# Altium footprint library IPC-SM-782 Section 14.1.2 PBGA 1.27mm.PcbLib: 49 footprints (part 9 of 11)
Each footprint in its own frame and in the unit in brackets; x right, y up, seen from the top. Pads: shape width x height; smd on the part's side, far side on the other; paste and mask are expansions set on the pad; w line width, h text height; cw(c..) or ccw(c..) is an arc to the next point about the centre after c.
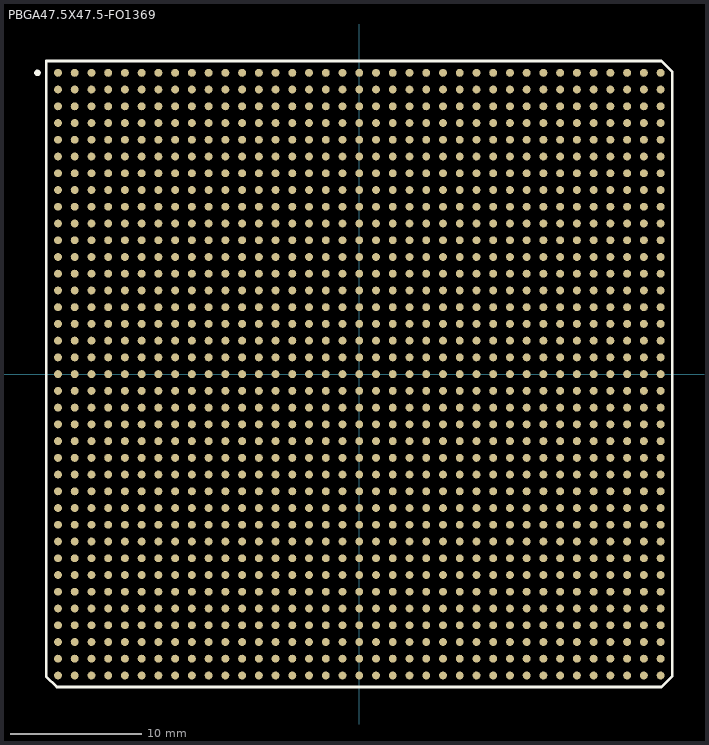
[diagram p8: the footprint, top view; thin cyan lines are the x and y axes]

## PBGA47.5X47.5-FO1369 [mm] "BGA; 1369 Balls; Body 47.5 x 47.5 mm; Pitch 1.27 mm"
height 3.5
pads (1369):
  round 0.6 smd: A1(-22.86,22.86) A2(-21.59,22.86) A3(-20.32,22.86) A4(-19.05,22.86) A5(-17.78,22.86) A6(-16.51,22.86) A7(-15.24,22.86) A8(-13.97,22.86) A9(-12.7,22.86) A10(-11.43,22.86) A11(-10.16,22.86) A12(-8.89,22.86) A13(-7.62,22.86) A14(-6.35,22.86) A15(-5.08,22.86) A16(-3.81,22.86) A17(-2.54,22.86) A18(-1.27,22.86) A19(0,22.86) A20(1.27,22.86) A21(2.54,22.86) A22(3.81,22.86) A23(5.08,22.86) A24(6.35,22.86) A25(7.62,22.86) A26(8.89,22.86) A27(10.16,22.86) A28(11.43,22.86) A29(12.7,22.86) A30(13.97,22.86) A31(15.24,22.86) A32(16.51,22.86) A33(17.78,22.86) A34(19.05,22.86) A35(20.32,22.86) A36(21.59,22.86) A37(22.86,22.86) AA1(-22.86,-2.54) AA2(-21.59,-2.54) AA3(-20.32,-2.54) AA4(-19.05,-2.54) AA5(-17.78,-2.54) AA6(-16.51,-2.54) AA7(-15.24,-2.54) AA8(-13.97,-2.54) AA9(-12.7,-2.54) AA10(-11.43,-2.54) AA11(-10.16,-2.54) AA12(-8.89,-2.54) AA13(-7.62,-2.54) AA14(-6.35,-2.54) AA15(-5.08,-2.54) AA16(-3.81,-2.54) AA17(-2.54,-2.54) AA18(-1.27,-2.54) AA19(0,-2.54) AA20(1.27,-2.54) AA21(2.54,-2.54) AA22(3.81,-2.54) AA23(5.08,-2.54) AA24(6.35,-2.54) AA25(7.62,-2.54) AA26(8.89,-2.54) AA27(10.16,-2.54) AA28(11.43,-2.54) AA29(12.7,-2.54) AA30(13.97,-2.54) AA31(15.24,-2.54) AA32(16.51,-2.54) AA33(17.78,-2.54) AA34(19.05,-2.54) AA35(20.32,-2.54) AA36(21.59,-2.54) AA37(22.86,-2.54) AB1(-22.86,-3.81) AB2(-21.59,-3.81) AB3(-20.32,-3.81) AB4(-19.05,-3.81) AB5(-17.78,-3.81) AB6(-16.51,-3.81) AB7(-15.24,-3.81) AB8(-13.97,-3.81) AB9(-12.7,-3.81) AB10(-11.43,-3.81) AB11(-10.16,-3.81) AB12(-8.89,-3.81) AB13(-7.62,-3.81) AB14(-6.35,-3.81) AB15(-5.08,-3.81) AB16(-3.81,-3.81) AB17(-2.54,-3.81) AB18(-1.27,-3.81) AB19(0,-3.81) AB20(1.27,-3.81) AB21(2.54,-3.81) AB22(3.81,-3.81) AB23(5.08,-3.81) AB24(6.35,-3.81) AB25(7.62,-3.81) AB26(8.89,-3.81) AB27(10.16,-3.81) AB28(11.43,-3.81) AB29(12.7,-3.81) AB30(13.97,-3.81) AB31(15.24,-3.81) AB32(16.51,-3.81) AB33(17.78,-3.81) AB34(19.05,-3.81) AB35(20.32,-3.81) AB36(21.59,-3.81) AB37(22.86,-3.81) AC1(-22.86,-5.08) AC2(-21.59,-5.08) AC3(-20.32,-5.08) AC4(-19.05,-5.08) AC5(-17.78,-5.08) AC6(-16.51,-5.08) AC7(-15.24,-5.08) AC8(-13.97,-5.08) AC9(-12.7,-5.08) AC10(-11.43,-5.08) AC11(-10.16,-5.08) AC12(-8.89,-5.08) AC13(-7.62,-5.08) AC14(-6.35,-5.08) AC15(-5.08,-5.08) AC16(-3.81,-5.08) AC17(-2.54,-5.08) AC18(-1.27,-5.08) AC19(0,-5.08) AC20(1.27,-5.08) AC21(2.54,-5.08) AC22(3.81,-5.08) AC23(5.08,-5.08) AC24(6.35,-5.08) AC25(7.62,-5.08) AC26(8.89,-5.08) AC27(10.16,-5.08) AC28(11.43,-5.08) AC29(12.7,-5.08) AC30(13.97,-5.08) AC31(15.24,-5.08) AC32(16.51,-5.08) AC33(17.78,-5.08) AC34(19.05,-5.08) AC35(20.32,-5.08) AC36(21.59,-5.08) AC37(22.86,-5.08) AD1(-22.86,-6.35) AD2(-21.59,-6.35) AD3(-20.32,-6.35) AD4(-19.05,-6.35) AD5(-17.78,-6.35) AD6(-16.51,-6.35) AD7(-15.24,-6.35) AD8(-13.97,-6.35) AD9(-12.7,-6.35) AD10(-11.43,-6.35) AD11(-10.16,-6.35) AD12(-8.89,-6.35) AD13(-7.62,-6.35) AD14(-6.35,-6.35) AD15(-5.08,-6.35) AD16(-3.81,-6.35) AD17(-2.54,-6.35) AD18(-1.27,-6.35) AD19(0,-6.35) AD20(1.27,-6.35) AD21(2.54,-6.35) AD22(3.81,-6.35) AD23(5.08,-6.35) AD24(6.35,-6.35) AD25(7.62,-6.35) AD26(8.89,-6.35) AD27(10.16,-6.35) AD28(11.43,-6.35) AD29(12.7,-6.35) AD30(13.97,-6.35) AD31(15.24,-6.35) AD32(16.51,-6.35) AD33(17.78,-6.35) AD34(19.05,-6.35) AD35(20.32,-6.35) AD36(21.59,-6.35) AD37(22.86,-6.35) AE1(-22.86,-7.62) AE2(-21.59,-7.62) AE3(-20.32,-7.62) AE4(-19.05,-7.62) AE5(-17.78,-7.62) AE6(-16.51,-7.62) AE7(-15.24,-7.62) AE8(-13.97,-7.62) AE9(-12.7,-7.62) AE10(-11.43,-7.62) AE11(-10.16,-7.62) AE12(-8.89,-7.62) AE13(-7.62,-7.62) AE14(-6.35,-7.62) AE15(-5.08,-7.62) AE16(-3.81,-7.62) AE17(-2.54,-7.62) AE18(-1.27,-7.62) AE19(0,-7.62) AE20(1.27,-7.62) AE21(2.54,-7.62) AE22(3.81,-7.62) AE23(5.08,-7.62) AE24(6.35,-7.62) AE25(7.62,-7.62) AE26(8.89,-7.62) AE27(10.16,-7.62) AE28(11.43,-7.62) AE29(12.7,-7.62) AE30(13.97,-7.62) AE31(15.24,-7.62) AE32(16.51,-7.62) AE33(17.78,-7.62) AE34(19.05,-7.62) AE35(20.32,-7.62) AE36(21.59,-7.62) AE37(22.86,-7.62) AF1(-22.86,-8.89) AF2(-21.59,-8.89) AF3(-20.32,-8.89) AF4(-19.05,-8.89) AF5(-17.78,-8.89) AF6(-16.51,-8.89) AF7(-15.24,-8.89) AF8(-13.97,-8.89) AF9(-12.7,-8.89) AF10(-11.43,-8.89) AF11(-10.16,-8.89) AF12(-8.89,-8.89) AF13(-7.62,-8.89) AF14(-6.35,-8.89) AF15(-5.08,-8.89) AF16(-3.81,-8.89) AF17(-2.54,-8.89) AF18(-1.27,-8.89) AF19(0,-8.89) AF20(1.27,-8.89) AF21(2.54,-8.89) AF22(3.81,-8.89) AF23(5.08,-8.89) AF24(6.35,-8.89) AF25(7.62,-8.89) AF26(8.89,-8.89) AF27(10.16,-8.89) AF28(11.43,-8.89) AF29(12.7,-8.89) AF30(13.97,-8.89) AF31(15.24,-8.89) AF32(16.51,-8.89) AF33(17.78,-8.89) AF34(19.05,-8.89) AF35(20.32,-8.89) AF36(21.59,-8.89) AF37(22.86,-8.89) AG1(-22.86,-10.16) AG2(-21.59,-10.16) AG3(-20.32,-10.16) AG4(-19.05,-10.16) AG5(-17.78,-10.16) AG6(-16.51,-10.16) AG7(-15.24,-10.16) AG8(-13.97,-10.16) AG9(-12.7,-10.16) AG10(-11.43,-10.16) AG11(-10.16,-10.16) AG12(-8.89,-10.16) AG13(-7.62,-10.16) AG14(-6.35,-10.16) AG15(-5.08,-10.16) AG16(-3.81,-10.16) AG17(-2.54,-10.16) AG18(-1.27,-10.16) AG19(0,-10.16) AG20(1.27,-10.16) AG21(2.54,-10.16) AG22(3.81,-10.16) AG23(5.08,-10.16) AG24(6.35,-10.16) AG25(7.62,-10.16) AG26(8.89,-10.16) AG27(10.16,-10.16) AG28(11.43,-10.16) AG29(12.7,-10.16) AG30(13.97,-10.16) AG31(15.24,-10.16) AG32(16.51,-10.16) AG33(17.78,-10.16) AG34(19.05,-10.16) AG35(20.32,-10.16) AG36(21.59,-10.16) AG37(22.86,-10.16) AH1(-22.86,-11.43) AH2(-21.59,-11.43) AH3(-20.32,-11.43) AH4(-19.05,-11.43) AH5(-17.78,-11.43) AH6(-16.51,-11.43) AH7(-15.24,-11.43) AH8(-13.97,-11.43) AH9(-12.7,-11.43) AH10(-11.43,-11.43) AH11(-10.16,-11.43) AH12(-8.89,-11.43) AH13(-7.62,-11.43) AH14(-6.35,-11.43) AH15(-5.08,-11.43) AH16(-3.81,-11.43) AH17(-2.54,-11.43) AH18(-1.27,-11.43) AH19(0,-11.43) AH20(1.27,-11.43) AH21(2.54,-11.43) AH22(3.81,-11.43) AH23(5.08,-11.43) AH24(6.35,-11.43) AH25(7.62,-11.43) AH26(8.89,-11.43) AH27(10.16,-11.43) AH28(11.43,-11.43) AH29(12.7,-11.43) AH30(13.97,-11.43) AH31(15.24,-11.43) AH32(16.51,-11.43) AH33(17.78,-11.43) AH34(19.05,-11.43) AH35(20.32,-11.43) AH36(21.59,-11.43) AH37(22.86,-11.43) AJ1(-22.86,-12.7) AJ2(-21.59,-12.7) AJ3(-20.32,-12.7) AJ4(-19.05,-12.7) AJ5(-17.78,-12.7) AJ6(-16.51,-12.7) AJ7(-15.24,-12.7) AJ8(-13.97,-12.7) AJ9(-12.7,-12.7) AJ10(-11.43,-12.7) AJ11(-10.16,-12.7) AJ12(-8.89,-12.7) AJ13(-7.62,-12.7) AJ14(-6.35,-12.7) AJ15(-5.08,-12.7) AJ16(-3.81,-12.7) AJ17(-2.54,-12.7) AJ18(-1.27,-12.7) AJ19(0,-12.7) AJ20(1.27,-12.7) AJ21(2.54,-12.7) AJ22(3.81,-12.7) AJ23(5.08,-12.7) AJ24(6.35,-12.7) AJ25(7.62,-12.7) AJ26(8.89,-12.7) AJ27(10.16,-12.7) AJ28(11.43,-12.7) AJ29(12.7,-12.7) AJ30(13.97,-12.7) AJ31(15.24,-12.7) AJ32(16.51,-12.7) AJ33(17.78,-12.7) AJ34(19.05,-12.7) AJ35(20.32,-12.7) AJ36(21.59,-12.7) AJ37(22.86,-12.7) AK1(-22.86,-13.97) AK2(-21.59,-13.97) AK3(-20.32,-13.97) AK4(-19.05,-13.97) AK5(-17.78,-13.97) AK6(-16.51,-13.97) AK7(-15.24,-13.97) AK8(-13.97,-13.97) AK9(-12.7,-13.97) AK10(-11.43,-13.97) AK11(-10.16,-13.97) AK12(-8.89,-13.97) AK13(-7.62,-13.97) AK14(-6.35,-13.97) AK15(-5.08,-13.97) AK16(-3.81,-13.97) AK17(-2.54,-13.97) AK18(-1.27,-13.97) AK19(0,-13.97) AK20(1.27,-13.97) AK21(2.54,-13.97) AK22(3.81,-13.97) AK23(5.08,-13.97) AK24(6.35,-13.97) AK25(7.62,-13.97) AK26(8.89,-13.97) AK27(10.16,-13.97) AK28(11.43,-13.97) AK29(12.7,-13.97) AK30(13.97,-13.97) AK31(15.24,-13.97) AK32(16.51,-13.97) AK33(17.78,-13.97) AK34(19.05,-13.97) AK35(20.32,-13.97) AK36(21.59,-13.97) AK37(22.86,-13.97) AL1(-22.86,-15.24) AL2(-21.59,-15.24) AL3(-20.32,-15.24) AL4(-19.05,-15.24) AL5(-17.78,-15.24) AL6(-16.51,-15.24) AL7(-15.24,-15.24) AL8(-13.97,-15.24) AL9(-12.7,-15.24) AL10(-11.43,-15.24) AL11(-10.16,-15.24) AL12(-8.89,-15.24) AL13(-7.62,-15.24) AL14(-6.35,-15.24) AL15(-5.08,-15.24) AL16(-3.81,-15.24) AL17(-2.54,-15.24) AL18(-1.27,-15.24) AL19(0,-15.24) AL20(1.27,-15.24) AL21(2.54,-15.24) AL22(3.81,-15.24) AL23(5.08,-15.24) AL24(6.35,-15.24) AL25(7.62,-15.24) AL26(8.89,-15.24) AL27(10.16,-15.24) AL28(11.43,-15.24) AL29(12.7,-15.24) AL30(13.97,-15.24) AL31(15.24,-15.24) AL32(16.51,-15.24) AL33(17.78,-15.24) AL34(19.05,-15.24) AL35(20.32,-15.24) AL36(21.59,-15.24) AL37(22.86,-15.24) AM1(-22.86,-16.51) AM2(-21.59,-16.51) AM3(-20.32,-16.51) AM4(-19.05,-16.51) AM5(-17.78,-16.51) AM6(-16.51,-16.51) AM7(-15.24,-16.51) AM8(-13.97,-16.51) AM9(-12.7,-16.51) AM10(-11.43,-16.51) AM11(-10.16,-16.51) AM12(-8.89,-16.51) AM13(-7.62,-16.51) AM14(-6.35,-16.51) AM15(-5.08,-16.51) AM16(-3.81,-16.51) AM17(-2.54,-16.51) AM18(-1.27,-16.51) AM19(0,-16.51) AM20(1.27,-16.51) AM21(2.54,-16.51) AM22(3.81,-16.51) AM23(5.08,-16.51) AM24(6.35,-16.51) AM25(7.62,-16.51) AM26(8.89,-16.51) AM27(10.16,-16.51) AM28(11.43,-16.51) AM29(12.7,-16.51) AM30(13.97,-16.51) AM31(15.24,-16.51) AM32(16.51,-16.51) AM33(17.78,-16.51) AM34(19.05,-16.51) AM35(20.32,-16.51) AM36(21.59,-16.51) AM37(22.86,-16.51) AN1(-22.86,-17.78) AN2(-21.59,-17.78) AN3(-20.32,-17.78) AN4(-19.05,-17.78) AN5(-17.78,-17.78) AN6(-16.51,-17.78) AN7(-15.24,-17.78) AN8(-13.97,-17.78) AN9(-12.7,-17.78) AN10(-11.43,-17.78) AN11(-10.16,-17.78) AN12(-8.89,-17.78) AN13(-7.62,-17.78) AN14(-6.35,-17.78) AN15(-5.08,-17.78) AN16(-3.81,-17.78) AN17(-2.54,-17.78) AN18(-1.27,-17.78) AN19(0,-17.78) AN20(1.27,-17.78) AN21(2.54,-17.78) AN22(3.81,-17.78) AN23(5.08,-17.78) AN24(6.35,-17.78) AN25(7.62,-17.78) AN26(8.89,-17.78) AN27(10.16,-17.78) AN28(11.43,-17.78) AN29(12.7,-17.78) AN30(13.97,-17.78) AN31(15.24,-17.78) AN32(16.51,-17.78) AN33(17.78,-17.78) AN34(19.05,-17.78) AN35(20.32,-17.78) AN36(21.59,-17.78) AN37(22.86,-17.78) AP1(-22.86,-19.05) AP2(-21.59,-19.05) AP3(-20.32,-19.05) AP4(-19.05,-19.05) AP5(-17.78,-19.05) AP6(-16.51,-19.05) AP7(-15.24,-19.05) AP8(-13.97,-19.05) AP9(-12.7,-19.05) AP10(-11.43,-19.05) AP11(-10.16,-19.05) AP12(-8.89,-19.05) AP13(-7.62,-19.05) AP14(-6.35,-19.05) AP15(-5.08,-19.05) AP16(-3.81,-19.05) AP17(-2.54,-19.05) AP18(-1.27,-19.05) AP19(0,-19.05) AP20(1.27,-19.05) AP21(2.54,-19.05) AP22(3.81,-19.05) AP23(5.08,-19.05) AP24(6.35,-19.05) AP25(7.62,-19.05) AP26(8.89,-19.05) AP27(10.16,-19.05) AP28(11.43,-19.05) AP29(12.7,-19.05) AP30(13.97,-19.05) AP31(15.24,-19.05) AP32(16.51,-19.05) AP33(17.78,-19.05) AP34(19.05,-19.05) AP35(20.32,-19.05) AP36(21.59,-19.05) AP37(22.86,-19.05) AR1(-22.86,-20.32) AR2(-21.59,-20.32) AR3(-20.32,-20.32) AR4(-19.05,-20.32) AR5(-17.78,-20.32) AR6(-16.51,-20.32) AR7(-15.24,-20.32) AR8(-13.97,-20.32) AR9(-12.7,-20.32) AR10(-11.43,-20.32) AR11(-10.16,-20.32) AR12(-8.89,-20.32) AR13(-7.62,-20.32) AR14(-6.35,-20.32) AR15(-5.08,-20.32) AR16(-3.81,-20.32) AR17(-2.54,-20.32) AR18(-1.27,-20.32) AR19(0,-20.32) AR20(1.27,-20.32) AR21(2.54,-20.32) AR22(3.81,-20.32) AR23(5.08,-20.32) AR24(6.35,-20.32) AR25(7.62,-20.32) AR26(8.89,-20.32) AR27(10.16,-20.32) AR28(11.43,-20.32) AR29(12.7,-20.32) AR30(13.97,-20.32) AR31(15.24,-20.32) AR32(16.51,-20.32) AR33(17.78,-20.32) AR34(19.05,-20.32) AR35(20.32,-20.32) AR36(21.59,-20.32) AR37(22.86,-20.32) AT1(-22.86,-21.59) AT2(-21.59,-21.59) AT3(-20.32,-21.59) AT4(-19.05,-21.59) AT5(-17.78,-21.59) AT6(-16.51,-21.59) AT7(-15.24,-21.59) AT8(-13.97,-21.59) AT9(-12.7,-21.59) AT10(-11.43,-21.59) AT11(-10.16,-21.59) AT12(-8.89,-21.59) AT13(-7.62,-21.59) AT14(-6.35,-21.59) AT15(-5.08,-21.59) AT16(-3.81,-21.59) AT17(-2.54,-21.59) AT18(-1.27,-21.59) AT19(0,-21.59) AT20(1.27,-21.59) AT21(2.54,-21.59) AT22(3.81,-21.59) AT23(5.08,-21.59) AT24(6.35,-21.59) AT25(7.62,-21.59) AT26(8.89,-21.59) AT27(10.16,-21.59) AT28(11.43,-21.59) AT29(12.7,-21.59) AT30(13.97,-21.59) AT31(15.24,-21.59) AT32(16.51,-21.59) AT33(17.78,-21.59) AT34(19.05,-21.59) AT35(20.32,-21.59) AT36(21.59,-21.59) AT37(22.86,-21.59) AU1(-22.86,-22.86) AU2(-21.59,-22.86) AU3(-20.32,-22.86) AU4(-19.05,-22.86) AU5(-17.78,-22.86) AU6(-16.51,-22.86) AU7(-15.24,-22.86) AU8(-13.97,-22.86) AU9(-12.7,-22.86) AU10(-11.43,-22.86) AU11(-10.16,-22.86) AU12(-8.89,-22.86) AU13(-7.62,-22.86) AU14(-6.35,-22.86) AU15(-5.08,-22.86) AU16(-3.81,-22.86) AU17(-2.54,-22.86) AU18(-1.27,-22.86) AU19(0,-22.86) AU20(1.27,-22.86) AU21(2.54,-22.86) AU22(3.81,-22.86) AU23(5.08,-22.86) AU24(6.35,-22.86) AU25(7.62,-22.86) AU26(8.89,-22.86) AU27(10.16,-22.86) AU28(11.43,-22.86) AU29(12.7,-22.86) AU30(13.97,-22.86) AU31(15.24,-22.86) AU32(16.51,-22.86) AU33(17.78,-22.86) AU34(19.05,-22.86) AU35(20.32,-22.86) AU36(21.59,-22.86) AU37(22.86,-22.86) B1(-22.86,21.59) B2(-21.59,21.59) B3(-20.32,21.59) B4(-19.05,21.59) B5(-17.78,21.59) B6(-16.51,21.59) B7(-15.24,21.59) B8(-13.97,21.59) B9(-12.7,21.59) B10(-11.43,21.59) B11(-10.16,21.59) B12(-8.89,21.59) B13(-7.62,21.59) B14(-6.35,21.59) B15(-5.08,21.59) B16(-3.81,21.59) B17(-2.54,21.59) B18(-1.27,21.59) B19(0,21.59) B20(1.27,21.59) B21(2.54,21.59) B22(3.81,21.59) B23(5.08,21.59) B24(6.35,21.59) B25(7.62,21.59) B26(8.89,21.59) B27(10.16,21.59) B28(11.43,21.59) B29(12.7,21.59) B30(13.97,21.59) B31(15.24,21.59) B32(16.51,21.59) B33(17.78,21.59) B34(19.05,21.59) B35(20.32,21.59) B36(21.59,21.59) B37(22.86,21.59) C1(-22.86,20.32) C2(-21.59,20.32) C3(-20.32,20.32) C4(-19.05,20.32) C5(-17.78,20.32) C6(-16.51,20.32) C7(-15.24,20.32) C8(-13.97,20.32) C9(-12.7,20.32) C10(-11.43,20.32) C11(-10.16,20.32) C12(-8.89,20.32) C13(-7.62,20.32) C14(-6.35,20.32) C15(-5.08,20.32) C16(-3.81,20.32) C17(-2.54,20.32) C18(-1.27,20.32) C19(0,20.32) C20(1.27,20.32) C21(2.54,20.32) C22(3.81,20.32) C23(5.08,20.32) C24(6.35,20.32) C25(7.62,20.32) C26(8.89,20.32) C27(10.16,20.32) C28(11.43,20.32) C29(12.7,20.32) C30(13.97,20.32) C31(15.24,20.32) C32(16.51,20.32) C33(17.78,20.32) C34(19.05,20.32) C35(20.32,20.32) C36(21.59,20.32) C37(22.86,20.32) D1(-22.86,19.05) D2(-21.59,19.05) D3(-20.32,19.05) D4(-19.05,19.05) D5(-17.78,19.05) D6(-16.51,19.05) D7(-15.24,19.05) D8(-13.97,19.05) D9(-12.7,19.05) D10(-11.43,19.05) D11(-10.16,19.05) D12(-8.89,19.05) D13(-7.62,19.05) D14(-6.35,19.05) D15(-5.08,19.05) D16(-3.81,19.05) D17(-2.54,19.05) D18(-1.27,19.05) D19(0,19.05) D20(1.27,19.05) D21(2.54,19.05) D22(3.81,19.05) D23(5.08,19.05) D24(6.35,19.05) D25(7.62,19.05) D26(8.89,19.05) D27(10.16,19.05) D28(11.43,19.05) D29(12.7,19.05) D30(13.97,19.05) D31(15.24,19.05) D32(16.51,19.05) D33(17.78,19.05) D34(19.05,19.05) D35(20.32,19.05) D36(21.59,19.05) D37(22.86,19.05) E1(-22.86,17.78) E2(-21.59,17.78) E3(-20.32,17.78) E4(-19.05,17.78) E5(-17.78,17.78) E6(-16.51,17.78) E7(-15.24,17.78) E8(-13.97,17.78) E9(-12.7,17.78) E10(-11.43,17.78) E11(-10.16,17.78) E12(-8.89,17.78) E13(-7.62,17.78) E14(-6.35,17.78) E15(-5.08,17.78) E16(-3.81,17.78) E17(-2.54,17.78) E18(-1.27,17.78) E19(0,17.78) E20(1.27,17.78) E21(2.54,17.78) E22(3.81,17.78) E23(5.08,17.78) E24(6.35,17.78) E25(7.62,17.78) E26(8.89,17.78) E27(10.16,17.78) E28(11.43,17.78) E29(12.7,17.78) E30(13.97,17.78) E31(15.24,17.78) E32(16.51,17.78) E33(17.78,17.78) E34(19.05,17.78) E35(20.32,17.78) E36(21.59,17.78) E37(22.86,17.78) F1(-22.86,16.51) F2(-21.59,16.51) F3(-20.32,16.51) F4(-19.05,16.51) F5(-17.78,16.51) F6(-16.51,16.51) F7(-15.24,16.51) F8(-13.97,16.51) F9(-12.7,16.51) F10(-11.43,16.51) F11(-10.16,16.51) F12(-8.89,16.51) F13(-7.62,16.51) F14(-6.35,16.51) F15(-5.08,16.51) F16(-3.81,16.51) F17(-2.54,16.51) F18(-1.27,16.51) F19(0,16.51) F20(1.27,16.51) F21(2.54,16.51) F22(3.81,16.51) F23(5.08,16.51) F24(6.35,16.51) F25(7.62,16.51) F26(8.89,16.51) F27(10.16,16.51) F28(11.43,16.51) F29(12.7,16.51) F30(13.97,16.51) F31(15.24,16.51) F32(16.51,16.51) F33(17.78,16.51) F34(19.05,16.51) F35(20.32,16.51) F36(21.59,16.51) F37(22.86,16.51) G1(-22.86,15.24) G2(-21.59,15.24) G3(-20.32,15.24) G4(-19.05,15.24) G5(-17.78,15.24) G6(-16.51,15.24) G7(-15.24,15.24) G8(-13.97,15.24) G9(-12.7,15.24) G10(-11.43,15.24) G11(-10.16,15.24) G12(-8.89,15.24) G13(-7.62,15.24) G14(-6.35,15.24) G15(-5.08,15.24) G16(-3.81,15.24) G17(-2.54,15.24) G18(-1.27,15.24) G19(0,15.24) G20(1.27,15.24) G21(2.54,15.24) G22(3.81,15.24) G23(5.08,15.24) G24(6.35,15.24) G25(7.62,15.24) G26(8.89,15.24) G27(10.16,15.24) G28(11.43,15.24) G29(12.7,15.24) G30(13.97,15.24) G31(15.24,15.24) G32(16.51,15.24) G33(17.78,15.24) G34(19.05,15.24) G35(20.32,15.24) G36(21.59,15.24) G37(22.86,15.24) H1(-22.86,13.97) H2(-21.59,13.97) H3(-20.32,13.97) H4(-19.05,13.97) H5(-17.78,13.97) H6(-16.51,13.97) H7(-15.24,13.97) H8(-13.97,13.97) H9(-12.7,13.97) H10(-11.43,13.97) H11(-10.16,13.97) H12(-8.89,13.97) H13(-7.62,13.97) H14(-6.35,13.97) H15(-5.08,13.97) H16(-3.81,13.97) H17(-2.54,13.97) H18(-1.27,13.97) H19(0,13.97) H20(1.27,13.97) H21(2.54,13.97) H22(3.81,13.97) H23(5.08,13.97) H24(6.35,13.97) H25(7.62,13.97) H26(8.89,13.97) H27(10.16,13.97) H28(11.43,13.97) H29(12.7,13.97) H30(13.97,13.97) H31(15.24,13.97) H32(16.51,13.97) H33(17.78,13.97) H34(19.05,13.97) H35(20.32,13.97) H36(21.59,13.97) H37(22.86,13.97) J1(-22.86,12.7) J2(-21.59,12.7) J3(-20.32,12.7) J4(-19.05,12.7) J5(-17.78,12.7) J6(-16.51,12.7) J7(-15.24,12.7) J8(-13.97,12.7) J9(-12.7,12.7) J10(-11.43,12.7) J11(-10.16,12.7) J12(-8.89,12.7) J13(-7.62,12.7) J14(-6.35,12.7) J15(-5.08,12.7) J16(-3.81,12.7) J17(-2.54,12.7) J18(-1.27,12.7) J19(0,12.7) J20(1.27,12.7) J21(2.54,12.7) J22(3.81,12.7) J23(5.08,12.7) J24(6.35,12.7) J25(7.62,12.7) J26(8.89,12.7) J27(10.16,12.7) J28(11.43,12.7) J29(12.7,12.7) J30(13.97,12.7) J31(15.24,12.7) J32(16.51,12.7) J33(17.78,12.7) J34(19.05,12.7) J35(20.32,12.7) J36(21.59,12.7) J37(22.86,12.7) K1(-22.86,11.43) K2(-21.59,11.43) K3(-20.32,11.43) K4(-19.05,11.43) K5(-17.78,11.43) K6(-16.51,11.43) K7(-15.24,11.43) K8(-13.97,11.43) K9(-12.7,11.43) K10(-11.43,11.43) K11(-10.16,11.43) K12(-8.89,11.43) K13(-7.62,11.43) K14(-6.35,11.43) K15(-5.08,11.43) K16(-3.81,11.43) K17(-2.54,11.43) K18(-1.27,11.43) K19(0,11.43) K20(1.27,11.43) K21(2.54,11.43) K22(3.81,11.43) K23(5.08,11.43) K24(6.35,11.43) K25(7.62,11.43) K26(8.89,11.43) K27(10.16,11.43) K28(11.43,11.43) K29(12.7,11.43) K30(13.97,11.43) K31(15.24,11.43) K32(16.51,11.43) K33(17.78,11.43) K34(19.05,11.43) K35(20.32,11.43) K36(21.59,11.43) K37(22.86,11.43) L1(-22.86,10.16) L2(-21.59,10.16) L3(-20.32,10.16) L4(-19.05,10.16) L5(-17.78,10.16) L6(-16.51,10.16) L7(-15.24,10.16) L8(-13.97,10.16) L9(-12.7,10.16) L10(-11.43,10.16) L11(-10.16,10.16) L12(-8.89,10.16) L13(-7.62,10.16) L14(-6.35,10.16) L15(-5.08,10.16) L16(-3.81,10.16) L17(-2.54,10.16) L18(-1.27,10.16) L19(0,10.16) L20(1.27,10.16) L21(2.54,10.16) L22(3.81,10.16) L23(5.08,10.16) L24(6.35,10.16) L25(7.62,10.16) L26(8.89,10.16) L27(10.16,10.16) L28(11.43,10.16) L29(12.7,10.16) L30(13.97,10.16) L31(15.24,10.16) L32(16.51,10.16) L33(17.78,10.16) L34(19.05,10.16) L35(20.32,10.16) L36(21.59,10.16) L37(22.86,10.16) M1(-22.86,8.89) M2(-21.59,8.89) M3(-20.32,8.89) M4(-19.05,8.89) M5(-17.78,8.89) M6(-16.51,8.89) M7(-15.24,8.89) M8(-13.97,8.89) M9(-12.7,8.89) M10(-11.43,8.89) M11(-10.16,8.89) M12(-8.89,8.89) M13(-7.62,8.89) M14(-6.35,8.89) M15(-5.08,8.89) M16(-3.81,8.89) M17(-2.54,8.89) M18(-1.27,8.89) M19(0,8.89) M20(1.27,8.89) M21(2.54,8.89) M22(3.81,8.89) M23(5.08,8.89) M24(6.35,8.89) M25(7.62,8.89) M26(8.89,8.89) M27(10.16,8.89) M28(11.43,8.89) M29(12.7,8.89) M30(13.97,8.89) M31(15.24,8.89) M32(16.51,8.89) M33(17.78,8.89) M34(19.05,8.89) M35(20.32,8.89) M36(21.59,8.89) M37(22.86,8.89) N1(-22.86,7.62) N2(-21.59,7.62) N3(-20.32,7.62) N4(-19.05,7.62) N5(-17.78,7.62) N6(-16.51,7.62) N7(-15.24,7.62) N8(-13.97,7.62) N9(-12.7,7.62) N10(-11.43,7.62) N11(-10.16,7.62) N12(-8.89,7.62) N13(-7.62,7.62) N14(-6.35,7.62) N15(-5.08,7.62) N16(-3.81,7.62) N17(-2.54,7.62) N18(-1.27,7.62) N19(0,7.62) N20(1.27,7.62) N21(2.54,7.62) N22(3.81,7.62) N23(5.08,7.62) N24(6.35,7.62) N25(7.62,7.62) N26(8.89,7.62) N27(10.16,7.62) N28(11.43,7.62) N29(12.7,7.62) N30(13.97,7.62) N31(15.24,7.62) N32(16.51,7.62) N33(17.78,7.62) N34(19.05,7.62) N35(20.32,7.62) N36(21.59,7.62) N37(22.86,7.62) P1(-22.86,6.35) P2(-21.59,6.35) P3(-20.32,6.35) P4(-19.05,6.35) P5(-17.78,6.35) P6(-16.51,6.35) P7(-15.24,6.35) P8(-13.97,6.35) P9(-12.7,6.35) P10(-11.43,6.35) P11(-10.16,6.35) P12(-8.89,6.35) P13(-7.62,6.35) P14(-6.35,6.35) P15(-5.08,6.35) P16(-3.81,6.35) P17(-2.54,6.35) P18(-1.27,6.35) P19(0,6.35) P20(1.27,6.35) P21(2.54,6.35) P22(3.81,6.35) P23(5.08,6.35) P24(6.35,6.35) P25(7.62,6.35) P26(8.89,6.35) P27(10.16,6.35) P28(11.43,6.35) P29(12.7,6.35) P30(13.97,6.35) P31(15.24,6.35) P32(16.51,6.35) P33(17.78,6.35) P34(19.05,6.35) P35(20.32,6.35) P36(21.59,6.35) P37(22.86,6.35) R1(-22.86,5.08) R2(-21.59,5.08) R3(-20.32,5.08) R4(-19.05,5.08) R5(-17.78,5.08) R6(-16.51,5.08) R7(-15.24,5.08) R8(-13.97,5.08) R9(-12.7,5.08) R10(-11.43,5.08) R11(-10.16,5.08) R12(-8.89,5.08) R13(-7.62,5.08) R14(-6.35,5.08) R15(-5.08,5.08) R16(-3.81,5.08) R17(-2.54,5.08) R18(-1.27,5.08) R19(0,5.08) R20(1.27,5.08) R21(2.54,5.08) R22(3.81,5.08) R23(5.08,5.08) R24(6.35,5.08) R25(7.62,5.08) R26(8.89,5.08) R27(10.16,5.08) R28(11.43,5.08) R29(12.7,5.08) R30(13.97,5.08) R31(15.24,5.08) R32(16.51,5.08) R33(17.78,5.08) R34(19.05,5.08) R35(20.32,5.08) R36(21.59,5.08) R37(22.86,5.08) T1(-22.86,3.81) T2(-21.59,3.81) T3(-20.32,3.81) T4(-19.05,3.81) T5(-17.78,3.81) T6(-16.51,3.81) T7(-15.24,3.81) T8(-13.97,3.81) T9(-12.7,3.81) T10(-11.43,3.81) T11(-10.16,3.81) T12(-8.89,3.81) T13(-7.62,3.81) T14(-6.35,3.81) T15(-5.08,3.81) T16(-3.81,3.81) T17(-2.54,3.81) T18(-1.27,3.81) T19(0,3.81) T20(1.27,3.81) T21(2.54,3.81) T22(3.81,3.81) T23(5.08,3.81) T24(6.35,3.81) T25(7.62,3.81) T26(8.89,3.81) T27(10.16,3.81) T28(11.43,3.81) T29(12.7,3.81) T30(13.97,3.81) T31(15.24,3.81) T32(16.51,3.81) T33(17.78,3.81) T34(19.05,3.81) T35(20.32,3.81) T36(21.59,3.81) T37(22.86,3.81) U1(-22.86,2.54) U2(-21.59,2.54) U3(-20.32,2.54) U4(-19.05,2.54) U5(-17.78,2.54) U6(-16.51,2.54) U7(-15.24,2.54) U8(-13.97,2.54) U9(-12.7,2.54) U10(-11.43,2.54) U11(-10.16,2.54) U12(-8.89,2.54) U13(-7.62,2.54) U14(-6.35,2.54) U15(-5.08,2.54) U16(-3.81,2.54) U17(-2.54,2.54) U18(-1.27,2.54) U19(0,2.54) U20(1.27,2.54) U21(2.54,2.54) U22(3.81,2.54) U23(5.08,2.54) U24(6.35,2.54) U25(7.62,2.54) U26(8.89,2.54) U27(10.16,2.54) U28(11.43,2.54) U29(12.7,2.54) U30(13.97,2.54) U31(15.24,2.54) U32(16.51,2.54) U33(17.78,2.54) U34(19.05,2.54) U35(20.32,2.54) U36(21.59,2.54) U37(22.86,2.54) V1(-22.86,1.27) V2(-21.59,1.27) V3(-20.32,1.27) V4(-19.05,1.27) V5(-17.78,1.27) V6(-16.51,1.27) V7(-15.24,1.27) V8(-13.97,1.27) V9(-12.7,1.27) V10(-11.43,1.27) V11(-10.16,1.27) V12(-8.89,1.27) V13(-7.62,1.27) V14(-6.35,1.27) V15(-5.08,1.27) V16(-3.81,1.27) V17(-2.54,1.27) V18(-1.27,1.27) V19(0,1.27) V20(1.27,1.27) V21(2.54,1.27) V22(3.81,1.27) V23(5.08,1.27) V24(6.35,1.27) V25(7.62,1.27) V26(8.89,1.27) V27(10.16,1.27) V28(11.43,1.27) V29(12.7,1.27) V30(13.97,1.27) V31(15.24,1.27) V32(16.51,1.27) V33(17.78,1.27) V34(19.05,1.27) V35(20.32,1.27) V36(21.59,1.27) V37(22.86,1.27) W1(-22.86,0) W2(-21.59,0) W3(-20.32,0) W4(-19.05,0) W5(-17.78,0) W6(-16.51,0) W7(-15.24,0) W8(-13.97,0) W9(-12.7,0) W10(-11.43,0) W11(-10.16,0) W12(-8.89,0) W13(-7.62,0) W14(-6.35,0) W15(-5.08,0) W16(-3.81,0) W17(-2.54,0) W18(-1.27,0) W19(0,0) W20(1.27,0) W21(2.54,0) W22(3.81,0) W23(5.08,0) W24(6.35,0) W25(7.62,0) W26(8.89,0) W27(10.16,0) W28(11.43,0) W29(12.7,0) W30(13.97,0) W31(15.24,0) W32(16.51,0) W33(17.78,0) W34(19.05,0) W35(20.32,0) W36(21.59,0) W37(22.86,0) Y1(-22.86,-1.27) Y2(-21.59,-1.27) Y3(-20.32,-1.27) Y4(-19.05,-1.27) Y5(-17.78,-1.27) Y6(-16.51,-1.27) Y7(-15.24,-1.27) Y8(-13.97,-1.27) Y9(-12.7,-1.27) Y10(-11.43,-1.27) Y11(-10.16,-1.27) Y12(-8.89,-1.27) Y13(-7.62,-1.27) Y14(-6.35,-1.27) Y15(-5.08,-1.27) Y16(-3.81,-1.27) Y17(-2.54,-1.27) Y18(-1.27,-1.27) Y19(0,-1.27) Y20(1.27,-1.27) Y21(2.54,-1.27) Y22(3.81,-1.27) Y23(5.08,-1.27) Y24(6.35,-1.27) Y25(7.62,-1.27) Y26(8.89,-1.27) Y27(10.16,-1.27) Y28(11.43,-1.27) Y29(12.7,-1.27) Y30(13.97,-1.27) Y31(15.24,-1.27) Y32(16.51,-1.27) Y33(17.78,-1.27) Y34(19.05,-1.27) Y35(20.32,-1.27) Y36(21.59,-1.27) Y37(22.86,-1.27)
Top Overlay:
  circle w0.25: c-24.415,22.86 r0.125
  lines w0.2: -23.76,-22.93 -23.76,23.76 22.93,23.76 23.74,22.95 23.74,-22.93 22.93,-23.74 -22.95,-23.74 -23.76,-22.93